# Altium schematic symbol library Connectors.SchLib: 48 symbols
Pins are listed as number, name and electrical type; pins without a type are passive.

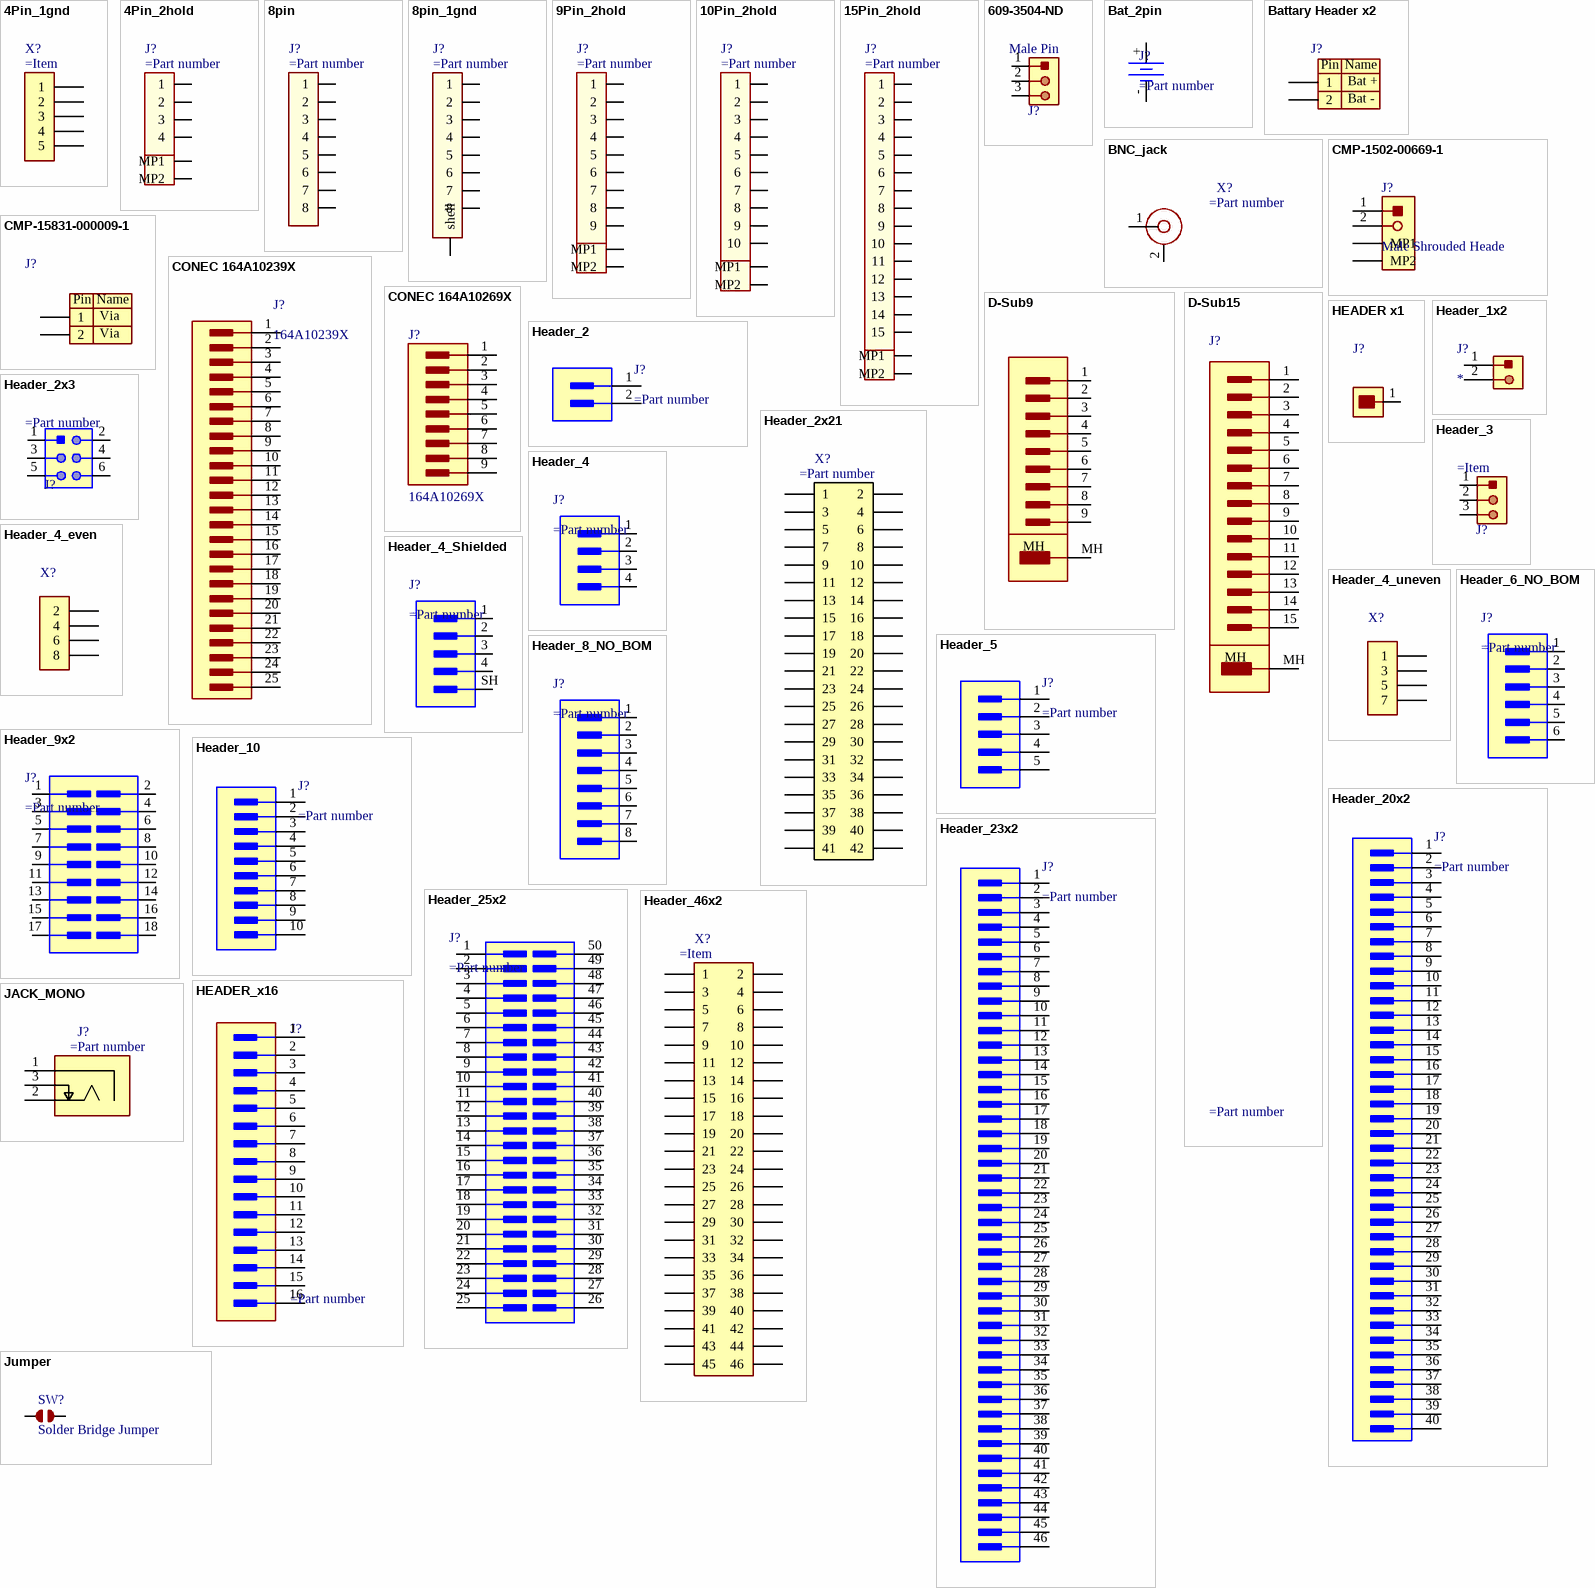
[diagram p0: symbols 4Pin_1gnd to Jumper]

## 4Pin_1gnd
designator X?
pins: 1, 2, 3, 4, 5

## 4Pin_2hold
designator J?
pins: 1, 2, 3, 4, MP1, MP2

## 8pin
designator J?
pins: 1, 2, 3, 4, 5, 6, 7, 8

## 8pin_1gnd
designator J?
pins: 1, 2, 3, 4, 5, 6, 7, 8, 9 shell

## 9Pin_2hold
designator J?
pins: 1, 2, 3, 4, 5, 6, 7, 8, 9, MP1, MP2

## 10Pin_2hold
designator J?
pins: 1, 2, 3, 4, 5, 6, 7, 8, 9, 10, MP1, MP2

## 15Pin_2hold
designator J?
pins: 1, 2, 3, 4, 5, 6, 7, 8, 9, 10, 11, 12, 13, 14, 15, MP1, MP2

## 609-3504-ND
designator J?, comment Male Pin
Connector Header Through Hole 3 position 0.100" (2.54mm); Manufcturer: Amphenol ICC (FCI); Case: Bag; Pin Gender: Male Pin; Supplier 1: Digi-Key; Supplier Part Number 1: 609-3504-ND
footprint Bag3
pins: 1 (power), 2 (power), 3 (power)

## Bat_2pin
designator J?
pins: +, -

## Battary Header x2
designator J?  (value not drawn)
footprint Battary Header x2
pins: 1, 2
text: Pin; Name; Bat +; Bat -

## BNC_jack
designator X?
Manufacturer Part Number: MJ-2506N; Manufacturer: CUI Devices; Supplier 1: Digi-Key; Supplier Part Number 1: CP-2506N-ND
pins: 1, 2

## CMP-1502-00669-1
designator J?, comment Male Shrouded Heade
Male Shrouded Header WR-WTB, SMT, Right Angled, pitch 2 mm, 1 x 2 position; Manufacturer: WurthElektronik; Position: 1x2; Supplier 1: Digi-Key; Supplier Part Number 1: 732-2711-1-ND; Case: TapeandReel; Gender: Male
footprint 620102131822
pins: 1, 2, MP1, MP2

## CMP-15831-000009-1
designator J?, comment M20-9990246  (value not drawn)
CONN HEADER VERT 2POS 2.54MM; Manufacturer: Harwin; Conn Gender: Male; Supplier 1: Digi-Key; Supplier Part Number 1: 952-2262-ND; Case: M20-9990246
footprint FP-M20-9990246-MFG
pins: 1, 2
text: Pin; Name; Via

## CONEC 164A10239X
designator J?, comment 164A10239X
D-Sub-Standard-Steckverbinder 25 POS SOLDER CUP AW G 20 FM THREADED; Manufacturer: Conec; Gender: Female; Mount: Through Hole; ComponentLink1Description: HelpURL; ComponentLink1URL: https://eu.mouser.com/datasheet/2/81/164A10219X-1520501.pdf; Supplier 1: Digi-Key; Supplier Part Number 1: 626-1043-ND
footprint 164A10239X_HOLE
pins: 1, 2, 3, 4, 5, 6, 7, 8, 9, 10, 11, 12, 13, 14, 15, 16, 17, 18, 19, 20, 21, 22, 23, 24, 25

## CONEC 164A10269X
designator J?, comment 164A10269X
D-Sub-Standard-Steckverbinder DSUB SLDRCUP AWG20 3 mmTH PREC MCHND CNT; Manufacturer: Conec; Gender: Female; Mount: Through Hole; ComponentLink1Description: HelpURL; ComponentLink1URL: https://eu.mouser.com/datasheet/2/81/conec_cnecs00178-1-1734044.pdf; Supplier 1: Mouser; Supplier Part Number 1: 706-164A10269X
footprint 164A10269X_HOLE
pins: 1, 2, 3, 4, 5, 6, 7, 8, 9

## D-Sub9
designator J?
pins: 1, 2, 3, 4, 5, 6, 7, 8, 9, MH MNT 1

## D-Sub15
designator J?
pins: 1, 2, 3, 4, 5, 6, 7, 8, 9, 10, 11, 12, 13, 14, 15, MH MNT 1

## HEADER x1
designator J?
CONN HEADER VERT 2POS; Conn Gender: Famale
footprint HEADER x1
pins: 1

## Header_1x2
designator J?
pins: 1, 2

## Header_2
designator J?
pins: 1, 2

## Header_2x3
designator J?
pins: 1, 2, 3, 4, 5, 6

## Header_2x21
designator X?
pins: 1, 2, 3, 4, 5, 6, 7, 8, 9, 10, 11, 12, 13, 14, 15, 16, 17, 18, 19, 20, 21, 22, 23, 24, 25, 26, 27, 28, 29, 30, 31, 32, 33, 34, 35, 36, 37, 38, 39, 40, 41, 42

## Header_3
designator J?
pins: 1 (power), 2 (power), 3 (power)

## Header_4
designator J?
pins: 1, 2, 3, 4

## Header_4_even
designator X?
pins: 2, 4, 6, 8

## Header_4_Shielded
designator J?
pins: 1, 2, 3, 4, SH

## Header_4_uneven
designator X?
pins: 1, 3, 5, 7

## Header_5
designator J?
pins: 1, 2, 3, 4, 5

## Header_6_NO_BOM
designator J?  (no BOM)
pins: 1, 2, 3, 4, 5, 6

## Header_8_NO_BOM
designator J?  (no BOM)
pins: 1, 2, 3, 4, 5, 6, 7, 8

## Header_9x2
designator J?
pins: 1, 2, 3, 4, 5, 6, 7, 8, 9, 10, 11, 12, 13, 14, 15, 16, 17, 18

## Header_10
designator J?
pins: 1, 2, 3, 4, 5, 6, 7, 8, 9, 10

## Header_20x2
designator J?
pins: 1, 2, 3, 4, 5, 6, 7, 8, 9, 10, 11, 12, 13, 14, 15, 16, 17, 18, 19, 20, 21, 22, 23, 24, 25, 26, 27, 28, 29, 30, 31, 32, 33, 34, 35, 36, 37, 38, 39, 40

## Header_23x2
designator J?
pins: 1, 2, 3, 4, 5, 6, 7, 8, 9, 10, 11, 12, 13, 14, 15, 16, 17, 18, 19, 20, 21, 22, 23, 24, 25, 26, 27, 28, 29, 30, 31, 32, 33, 34, 35, 36, 37, 38, 39, 40, 41, 42, 43, 44, 45, 46

## Header_25x2
designator J?
pins: 1, 2, 3, 4, 5, 6, 7, 8, 9, 10, 11, 12, 13, 14, 15, 16, 17, 18, 19, 20, 21, 22, 23, 24, 25, 26, 27, 28, 29, 30, 31, 32, 33, 34, 35, 36, 37, 38, 39, 40, 41, 42, 43, 44, 45, 46, 47, 48, 49, 50

## Header_46x2
designator X?
pins: 1, 2, 3, 4, 5, 6, 7, 8, 9, 10, 11, 12, 13, 14, 15, 16, 17, 18, 19, 20, 21, 22, 23, 24, 25, 26, 27, 28, 29, 30, 31, 32, 33, 34, 35, 36, 37, 38, 39, 40, 41, 42, 43, 44, 45, 46

## HEADER_x16
designator J?
pins: 1, 2, 3, 4, 5, 6, 7, 8, 9, 10, 11, 12, 13, 14, 15, 16

## JACK_MONO
designator J?
Manufacturer Part Number: MJ-2506N; Manufacturer: CUI Devices; Supplier 1: Digi-Key; Supplier Part Number 1: CP-2506N-ND
pins: 1, 2, 3

## Jumper
designator SW?, comment Solder Bridge Jumper
footprint Jumper
pins: 1, 2

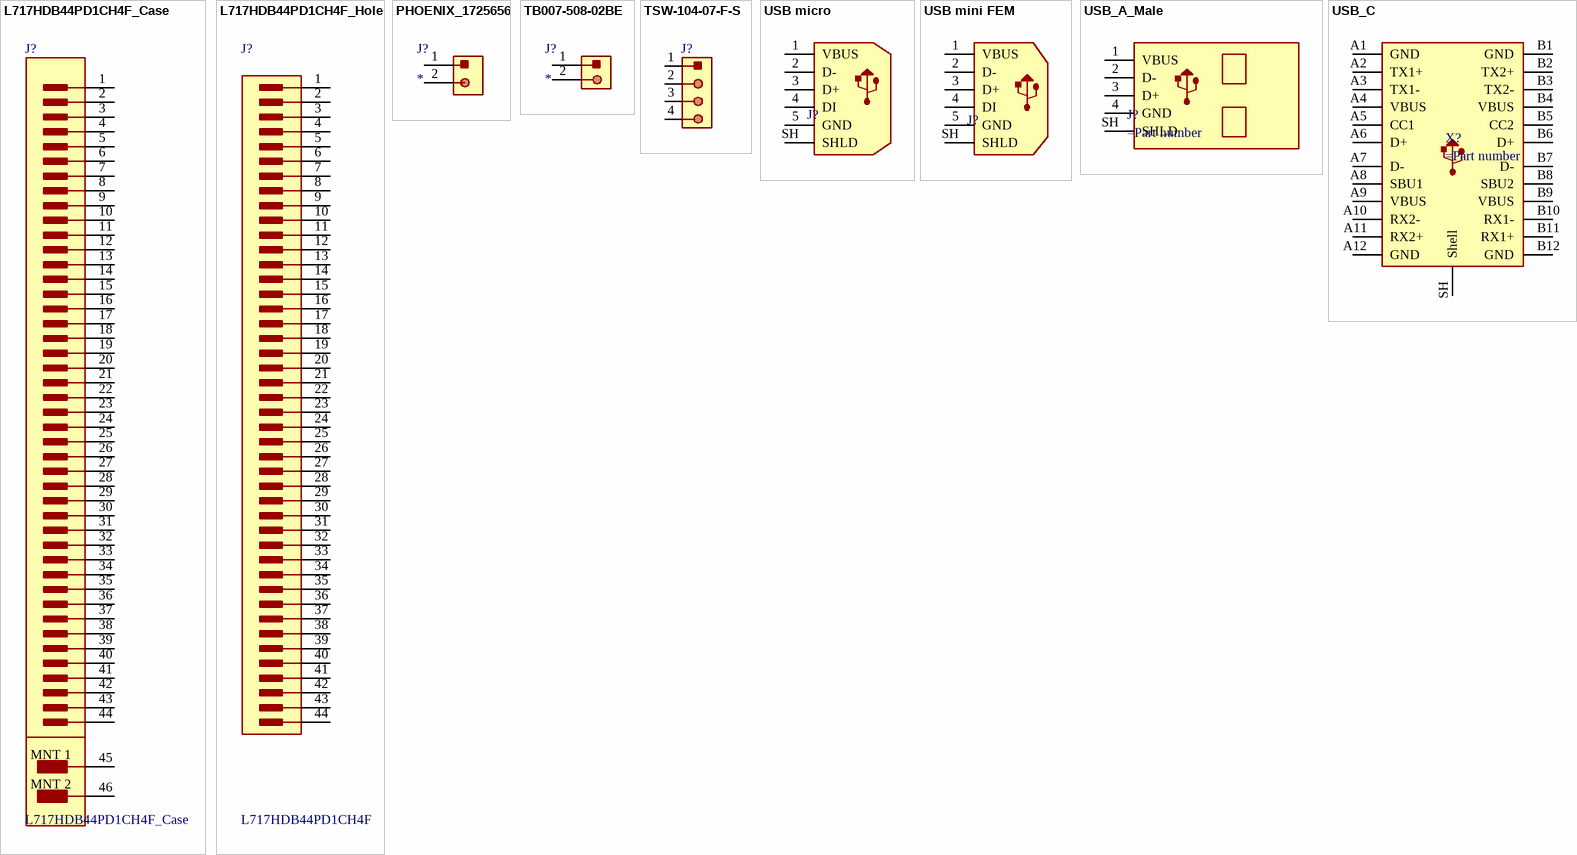
[diagram p1: symbols L717HDB44PD1CH4F_Case to USB_C]

## L717HDB44PD1CH4F_Case
designator J?
44 Position D-Sub, High Density Plug, Male Pins Connector; Manufacturer: Amphenol ICC (Commercial Products); Voltage Rating: 250V; Gender: Male; Mount: Through Hole; Contact Material: Brass; Supplier 1: Digi-Key; Supplier Part Number 1: L717HDB44PD1CH4F-ND; ComponentLink1Description: HelpURL; ComponentLink1URL: http://www.farnell.com/datasheets/1802103.pdf?src-supplier=Element14
footprint FP-L717HDB44_Case
pins: 1, 2, 3, 4, 5, 6, 7, 8, 9, 10, 11, 12, 13, 14, 15, 16, 17, 18, 19, 20, 21, 22, 23, 24, 25, 26, 27, 28, 29, 30, 31, 32, 33, 34, 35, 36, 37, 38, 39, 40, 41, 42, 43, 44, 45 MNT 1, 46 MNT 2

## L717HDB44PD1CH4F_Hole
designator J?, comment L717HDB44PD1CH4F
Gender: Female; Mount: Through Hole; ComponentLink1Description: HelpURL; ComponentLink1URL: http://www.farnell.com/datasheets/1802103.pdf?src-supplier=Element14
footprint FP-L717HDB4_Hole
pins: 1, 2, 3, 4, 5, 6, 7, 8, 9, 10, 11, 12, 13, 14, 15, 16, 17, 18, 19, 20, 21, 22, 23, 24, 25, 26, 27, 28, 29, 30, 31, 32, 33, 34, 35, 36, 37, 38, 39, 40, 41, 42, 43, 44

## PHOENIX_1725656
designator J?
pins: 1, 2

## TB007-508-02BE
designator J?
pins: 1, 2

## TSW-104-07-F-S
designator J?  (value not drawn)
CONN HEADER VERT 4POS 2.54MM; Manufcturer: Samtec Inc.; Pin Gender: Male; Case: Bag; Supplier 1: Digi-Key; Supplier Part Number 1: SAM8997-ND
footprint Bag4
pins: 1 (power), 2 (power), 3 (power), 4 (power)

## USB micro
designator J?, comment micro-USB female  (value not drawn)
pins: 1 VBUS (power), 2 D-, 3 D+, 4 DI, 5 GND (power), SH SHLD

## USB mini FEM
designator J?, comment mini-USB female  (value not drawn)
pins: 1 VBUS (power), 2 D-, 3 D+, 4 DI, 5 GND (power), SH SHLD

## USB_A_Male
designator J?
pins: 1 VBUS, 2 D-, 3 D+, 4 GND, SH SHLD

## USB_C
designator X?
pins: A1 GND, A2 TX1+, A3 TX1-, A4 VBUS, A5 CC1, A6 D+, A7 D-, A8 SBU1, A9 VBUS, A10 RX2-, A11 RX2+, A12 GND, B1 GND, B2 TX2+, B3 TX2-, B4 VBUS, B5 CC2, B6 D+, B7 D-, B8 SBU2, B9 VBUS, B10 RX1-, B11 RX1+, B12 GND, SH Shell